# Altium integrated library Nucleo_H7.IntLib: 1 symbol
Pins are listed as number, name and electrical type; pins without a type are passive.

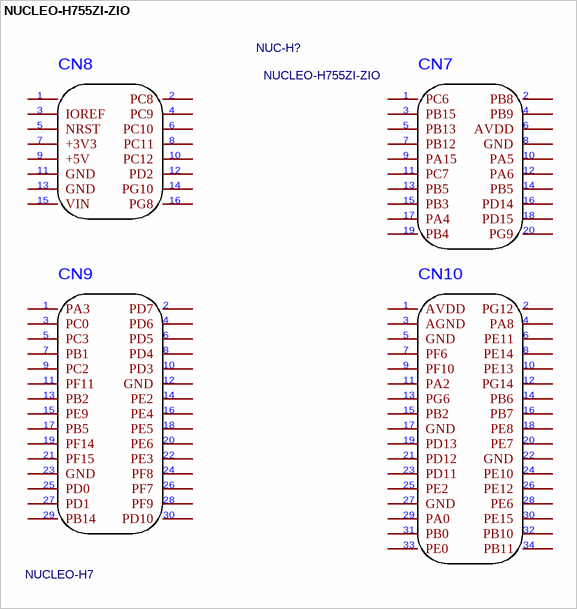
[diagram p0: symbol NUCLEO-H755ZI-ZIO]

## NUCLEO-H755ZI-ZIO
designator NUC-H?
Contributor: zutawin; Package Display: Yes; spicePre: X; Mounted: Yes; Supplier Part: 100x; Supplier: DOLI; spiceSymbolName: NUCLEO-H755ZI-ZIO
footprint NUCLEO-H7
pins: 145 PC10, 146 PC8, 147 IOREF, 148 PC9, 149 NRST, 150 PC10, 151 +3V3, 152 PC11, 153 +5V, 154 PC12, 155 GND, 156 PD2, 157 GND, 158 PG10, 159 VIN, 160 PG8, 161 PA3, 162 PD7, 163 PC0, 164 PD6, 165 PC3, 166 PD5, 167 PB1, 168 PD4, 169 PC2, 170 PD3, 171 PF11, 172 GND, 173 PB2, 174 PE2, 175 PE9, 176 PE4, 177 PB5, 178 PE5, 179 PF14, 180 PE6, 181 PF15, 182 PE3, 183 GND, 184 PF8, 185 PD0, 186 PF7, 187 PD1, 188 PF9, 189 PB14, 190 PD10, 191 PC6, 192 PB8, 193 PB15, 194 PB9, 195 PB13, 196 AVDD, 197 PB12, 198 GND, 199 PA15, 200 PA5, 201 PC7, 202 PA6, 203 PB5, 204 PB5, 205 PB3, 206 PD14, 207 PA4, 208 PD15, 209 PB4, 210 PG9, 211 AVDD, 212 PG12, 213 AGND, 214 PA8, 215 GND, 216 PE11, 217 PF6, 218 PE14, 219 PF10, 220 PE13, 221 PA2, 222 PG14, 223 PG6, 224 PB6, 225 PB2, 226 PB7, 227 GND, 228 PE8, 229 PD13, 230 PE7, 231 PD12, 232 GND, 233 PD11, 234 PE10, 235 PE2, 236 PE12, 237 GND, 238 PE6, 239 PA0, 240 PE15, 241 PB0, 242 PB10, 243 PE0, 244 PB11
text: CN8; CN7; 1; 2; 3; 4; 5; 6; 7; 8; 9; 10; 11; 12; 13; 14; 15; 16; 17; 18; 19; 20; CN9; CN10; 21; 22; 23; 24; 25; 26; 27; 28; 29; 30; 31; 32; 33; 34; NUCLEO-H7